# Altium schematic symbol library ALTAIR_PD_Resistors.SchLib: 3 symbols
Pins are listed as number, name and electrical type; pins without a type are passive.

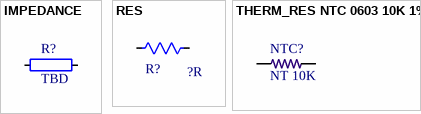
[diagram p0: symbols IMPEDANCE to THERM_RES NTC 0603 10K 1%]

## IMPEDANCE
designator R?, comment TBD
Generic Chip Passive, Any, Manually select footprint
pins: 1, 2

## RES
designator R?, comment ?R
Res, Any, Manually select footprint
footprint RES 0402 IPC MID DENSITY (Chip Resistor, 2-Leads, Body 1.00x0.50mm, IPC Medium Density)
footprint RES 0402 IPC LOW DENSITY
footprint RES 0402 IPC LOW DENSITY YAGEO
footprint RES 0402 NON-IPC SEI
footprint RES 0402 NON-IPC YAGEO
footprint RES 0603 IPC MID DENSITY
footprint RES 0805 IPC HIGH DENSITY (Chip Resistor, 2-Leads, Body 2.00x1.25mm, IPC High Density)
footprint RES 1206 IPC MID DENSITY (Chip Resistor, 2-Leads, Body 3.13x1.55mm, IPC Medium Density)
footprint RES 1206 NON-IPC VISHAY
pins: 1, 2
1 alternate drawing of the same symbol

## THERM_RES NTC 0603 10K 1%
designator NTC?, comment value NT 10K  (hidden comment: NTC 0603 10K 1%)
THERMISTOR NTC 10KOHM 3380K 0603; Manufacturer 1: Murata; Manufacturer Part Number 1: NCU18XH103F60RB; RoHS: No; Category: Thermistors; Stock 1: 48580; Case/Package: 0603; Case Code (Metric): 1608; Case Code (Imperial): 0603; Min Operating Temperature: -40°C; Max Operating Temperature: 125°C; REACH SVHC: No SVHC; ComponentLink1URL: http://www.farnell.com/datasheets/2095755.pdf?src-supplier=Farnell; ComponentLink1Description: http://www.farnell.com/datasheets/2095755.pdf?src-supplier=Farnell; ComponentLink2URL: https://www.murata.com/en-us/products/productdata/8796836233246/L0770E.pdf?src-supplier=Digi-Key; ComponentLink2Description: https://www.murata.com/en-us/products/productdata/8796836233246/L0770E.pdf?src-supplier=Digi-Key; ComponentLink3URL: http://www.farnell.com/datasheets/2095755.pdf?src-supplier=Element14; ComponentLink3Description: http://www.farnell.com/datasheets/2095755.pdf?src-supplier=Element14; Supplier 1: Digi-Key; Supplier Part Number 1: 490-16279-1-ND
footprint RES 0603 IPC MID DENSITY
pins: 1, 2